# EAGLE library part PP140-50CBS2.25X5.75 (library NewSDR)
LeaderTech Shield 2.25 x 5.75
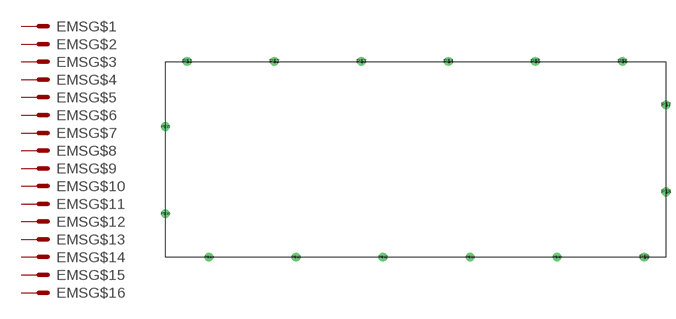
[diagram p117: symbol with the pads of PP140-50CBS2.25X5.75; footprint PP140-50CBS2.25X5.75]

Designator prefix EMS; gates G$1=MS G$2=MS G$3=MS G$4=MS G$5=MS G$6=MS G$7=MS G$8=MS G$9=MS G$10=MS G$11=MS G$12=MS G$13=MS G$14=MS G$15=MS G$16=MS

## PP140-50CBS2.25X5.75  [PP140-50CBS2.25X5.75]
P$1  G$1:MS  pas
P$2  G$2:MS  pas
P$3  G$3:MS  pas
P$4  G$4:MS  pas
P$5  G$5:MS  pas
P$6  G$6:MS  pas
P$7  G$7:MS  pas
P$8  G$8:MS  pas
P$9  G$9:MS  pas
P$10  G$10:MS  pas
P$11  G$11:MS  pas
P$12  G$12:MS  pas
P$13  G$13:MS  pas
P$14  G$14:MS  pas
P$15  G$15:MS  pas
P$16  G$16:MS  pas

## Footprint PP140-50CBS2.25X5.75 (pad centres in mm)
LeaderTech Shield 2.25 x 5.75
drill 1.27 pad 2.54: P$1 6.35,0; P$2 31.75,0; P$3 57.15,0; P$4 82.55,0; P$5 107.95,0; P$6 133.35,0; P$7 146.05,-12.7; P$8 146.05,-38.1; P$9 139.7,-57.15; P$10 114.3,-57.15; P$11 88.9,-57.15; P$12 63.5,-57.15; P$13 38.1,-57.15; P$14 12.7,-57.15; P$15 0,-19.05; P$16 0,-44.45